# Altium footprint library B66232_30_15_7.PcbLib: 1 footprints
Each footprint in its own frame and in the unit in brackets; x right, y up, seen from the top. Pads: shape width x height; smd on the part's side, far side on the other; paste and mask are expansions set on the pad; w line width, h text height; cw(c..) or ccw(c..) is an arc to the next point about the centre after c.
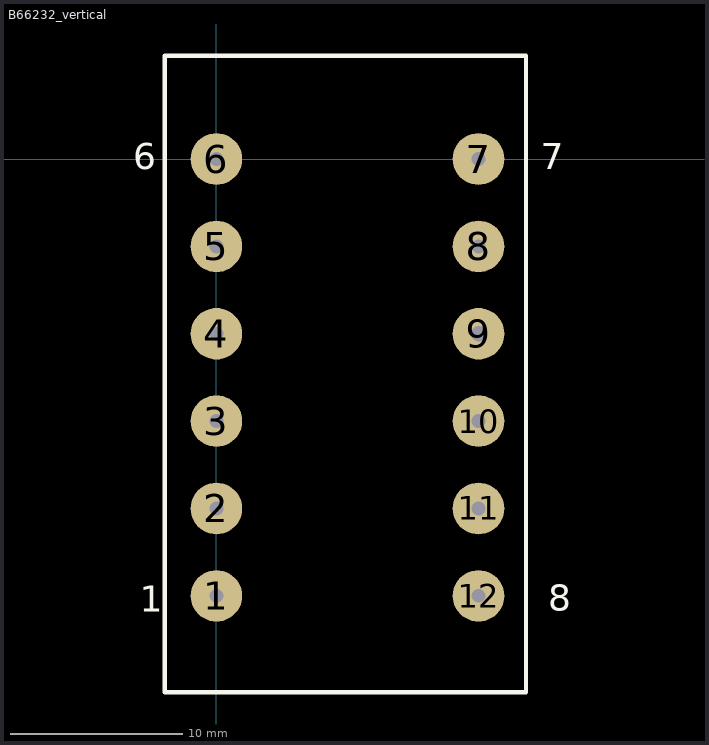
[diagram p0: the footprint, top view; thin cyan lines are the x and y axes]

## B66232_vertical [mm]
pads (12):
  round 3 hole 0.8: 1(0,-25.4) 2(0,-20.32) 3(0,-15.24) 4(0,-10.16) 5(0,-5.08) 6(0,0) 7(15.24,0) 8(15.24,-5.08) 10(15.24,-15.24) 11(15.24,-20.32) 12(15.24,-25.4)
  round 3 hole 0.9: 9(15.24,-10.16)
Top Overlay:
  lines w0.254: -3,-31 -3,6 18,6 18,-31 -3,-31
  text "8" at 19.3,-26.275 h1.52
  text "7" at 18.85,-0.6 h1.52
  text "1" at -4.45,-26.325 h1.52
  text "6" at -4.825,-0.6 h1.52
3D body: height 34.5, standoff -3, extent -1.975,-30.425 17.225,4.975